# Altium footprint library jointbar.PCBLIB: 75 footprints (part 3 of 5)
Each footprint in its own frame and in the unit in brackets; x right, y up, seen from the top. Pads: shape width x height; smd on the part's side, far side on the other; paste and mask are expansions set on the pad; w line width, h text height; cw(c..) or ccw(c..) is an arc to the next point about the centre after c.
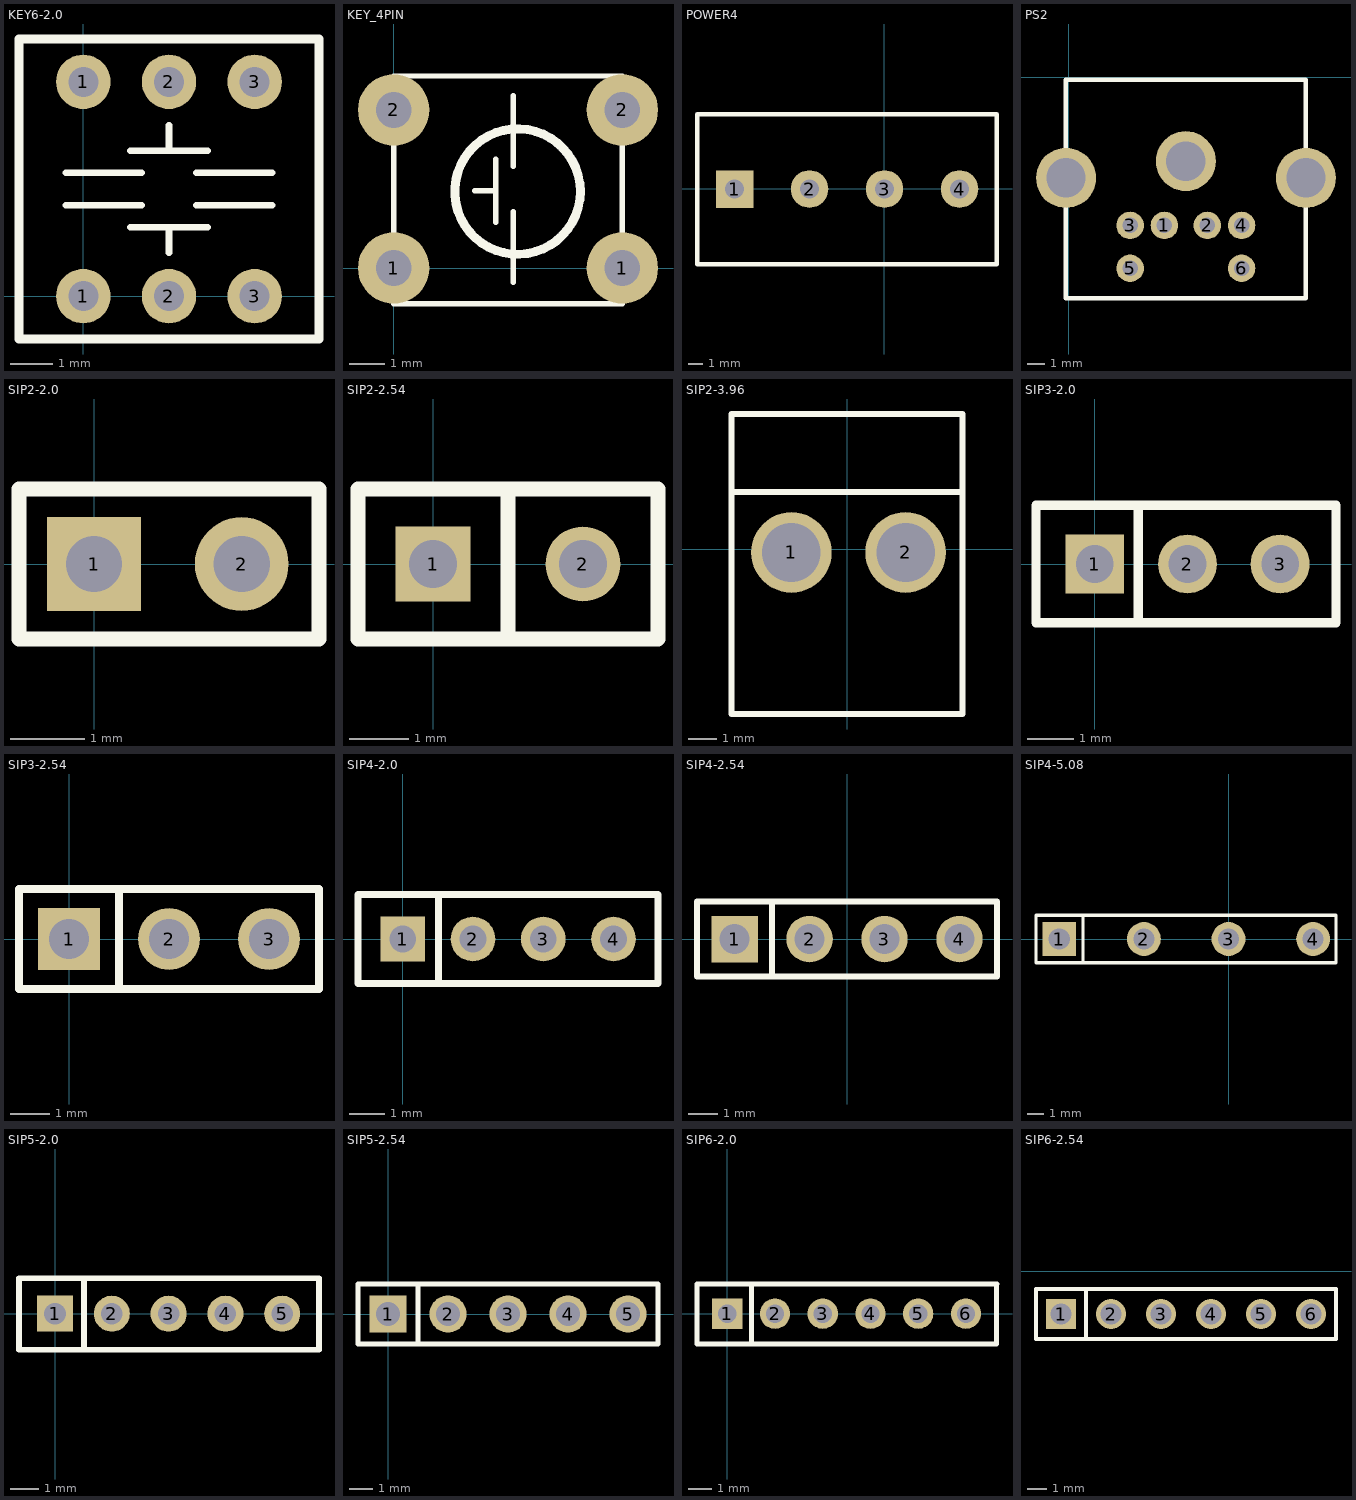
[diagram p2: the footprints below, top view; thin cyan lines are the x and y axes]

## KEY6-2.0 [mm] "方形,7x7mm,6pin/2.0mm间距"
pads (6):
  round 1.27 hole 0.7: 1(0,0) 1(0,5) 2(2,0) 2(2,5) 3(4,0) 3(4,5)
TopOverlay:
  lines w0.152: -0.413,2.119 1.365,2.119 ; -0.413,2.881 1.365,2.881 ; 1.1,1.611 2.9,1.611 ; 1.1,3.389 2.9,3.389 ; 2,1.011 2,1.611 ; 2,3.389 2,3.989 ; 2.635,2.119 4.413,2.119 ; 2.635,2.881 4.413,2.881
  lines w0.203: -1.5,-1 -1.5,6 5.5,6 5.5,-1 -1.5,-1

## KEY_4PIN [mil]
pads (4):
  round 80 hole 40: 1(0,0) 1(256,0) 2(0,177) 2(256,177)
TopOverlay:
  circle w10: c138.74,85.67 r70.27
  lines w6: 90.55,86.61 114.17,86.61 ; 114.17,51.18 114.17,122.05 ; 133.86,-15.75 133.86,62.99 ; 133.86,114.17 133.86,192.91 ; 0,-40 0,215 256,215 256,-40 0,-40

## POWER4 [mil]
pads (4):
  rect 100x100 hole 50: 1(-399.54,-0.22)
  round 100 hole 50: 2(-199.53,-0.22) 3(0.47,-0.22) 4(200.47,-0.22)
TopOverlay:
  lines w12: -499.54,-200.22 -499.54,199.78 300.46,199.78 300.46,-200.22 -499.54,-200.22

## PS2 [mil]
pads (9):
  round 63 hole 35.5: 1(220,-340) 2(318.42,-340) 3(141.26,-340) 4(397.16,-340) 5(141.26,-438.42) 6(397.16,-438.42)
  round 137.79 hole 90.55: ""(-6,-231) ""(269.21,-192.36) ""(545,-231)
TopOverlay:
  lines w10: -6.38,-507.32 544.8,-507.32 544.8,-5.35 -6.38,-5.35 -6.38,-507.32

## SIP2-2.0 [mil]
pads (2):
  rect 50x50 hole 30: 1(0,0)
  round 50 hole 30: 2(78.74,0)
TopOverlay:
  lines w8: -40,-40 -40,40 120,40 120,-40 -40,-40

## SIP2-2.54 [mil]
pads (2):
  rect 50x50 hole 32: 1(0,0)
  round 50 hole 32: 2(100,0)
TopOverlay:
  lines w10: 50,-50 50,50 ; -50,-50 -50,50 150,50 150,-50 -50,-50

## SIP2-3.96 [mil]
pads (2):
  round 110 hole 80: 1(-75.91,-4.25) 2(80,-4.25)
TopOverlay:
  lines w8: -157.48,78.42 157.48,78.42 ; -157.48,-224.72 -157.48,184.72 157.48,184.72 157.48,-224.72 -157.48,-224.72

## SIP3-2.0 [mil]
pads (3):
  rect 50x50 hole 32: 1(0,0)
  round 50 hole 32: 2(78.74,0) 3(157.48,0)
TopOverlay:
  lines w8: 37,50 37,-49 38,-50 ; -50,-50 205,-50 205,50 -50,50 -50,-50

## SIP3-2.54 [mil]
pads (3):
  rect 62x62 hole 40: 1(0,0)
  round 62 hole 40: 2(100,0) 3(200,0)
TopOverlay:
  lines w8: 50,-50 50,50 ; -50,-50 250,-50 250,50 -50,50 -50,-50

## SIP4-2.0 [mil]
pads (4):
  rect 50x50 hole 30: 1(0,0)
  round 50 hole 30: 2(78.74,0) 3(157.48,0) 4(236.22,0)
TopOverlay:
  lines w8: 40,-50 40,50 ; -50,-50 -50,50 286,50 286,-50 -50,-50

## SIP4-2.54 [mil]
pads (4):
  rect 62x62 hole 40: 1(-150,0)
  round 62 hole 40: 2(-50,0) 3(50,0) 4(150,0)
TopOverlay:
  lines w8: -100,-50 -100,50 ; -200,-50 200,-50 200,50 -200,50 -200,-50

## SIP4-5.08 [mil]
pads (4):
  rect 80x80 hole 50: 1(-400,0)
  round 80 hole 50: 2(-200,0) 3(0,0) 4(200,0)
TopOverlay:
  lines w8: -455,-56 254,-56 254,56 -455,56 ; -455,-55 -455,55 ; -344,-56 -344,56

## SIP5-2.0 [mil]
pads (5):
  rect 50x50 hole 30: 1(0,0)
  round 50 hole 30: 2(78.74,0) 3(157.48,0) 4(236.22,0) 5(314.96,0)
TopOverlay:
  lines w8: 40,-50 40,47 ; -50,-50 366,-50 366,49 -50,49 -50,-50

## SIP5-2.54 [mil]
pads (5):
  rect 62x62 hole 40: 1(0,0)
  round 62 hole 40: 2(100,0) 3(200,0) 4(300,0) 5(400,0)
TopOverlay:
  lines w8: 50,-50 50,50 ; -50,-50 -50,50 450,50 450,-50 -50,-50

## SIP6-2.0 [mil]
pads (6):
  rect 50x50 hole 30: 1(0,0)
  round 50 hole 30: 2(78.74,0) 3(157.48,0) 4(236.22,0) 5(314.96,0) 6(393.7,0)
TopOverlay:
  lines w8: 40,-49 40,49 ; -50,-50 444,-50 444,48 445,49 -50,49 -50,-50

## SIP6-2.54 [mil]
pads (6):
  rect 60x60 hole 42: 1(89.75,-85.93)
  round 60 hole 42: 2(189.75,-85.93) 3(289.75,-85.93) 4(389.75,-85.93) 5(489.75,-85.93) 6(589.75,-85.93)
TopOverlay:
  lines w8: 139.75,-135.93 139.75,-35.93 ; 39.74,-135.93 39.74,-35.93 639.75,-35.93 639.75,-135.93 39.74,-135.93